# Altium schematic symbol library VOD3120AD.SchLib: 1 symbol
Pins are listed as number, name and electrical type; pins without a type are passive.

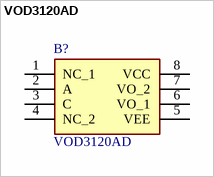
[diagram p0: symbol VOD3120AD]

## VOD3120AD
designator B?
Gate Drivers IGBT & MOSFET Drvr uL, cUL, CQC DIP-8; Manufacturer_Name: Vishay; Geometry.Height: 4.5mm; Mouser Part Number: 78-VOD3120AD; Mouser Price/Stock: https://www.mouser.co.uk/ProductDetail/Vishay-Semiconductors/VOD3120AD?qs=l7cgNqFNU1hxBq1Lv%2FY4fQ%3D%3D; Manufacturer_Part_Number: VOD3120AD; Datasheet Link: https://componentsearchengine.com/Datasheets/2/VOD3120AD.pdf
footprint DIP762W60P254L968H450Q8N
pins: 1 NC_1, 2 A, 3 C, 4 NC_2, 5 VEE, 6 VO_1, 7 VO_2, 8 VCC